# Altium footprint library PcbLib1.PcbLib: 53 footprints (part 3 of 4)
Each footprint in its own frame and in the unit in brackets; x right, y up, seen from the top. Pads: shape width x height; smd on the part's side, far side on the other; paste and mask are expansions set on the pad; w line width, h text height; cw(c..) or ccw(c..) is an arc to the next point about the centre after c.
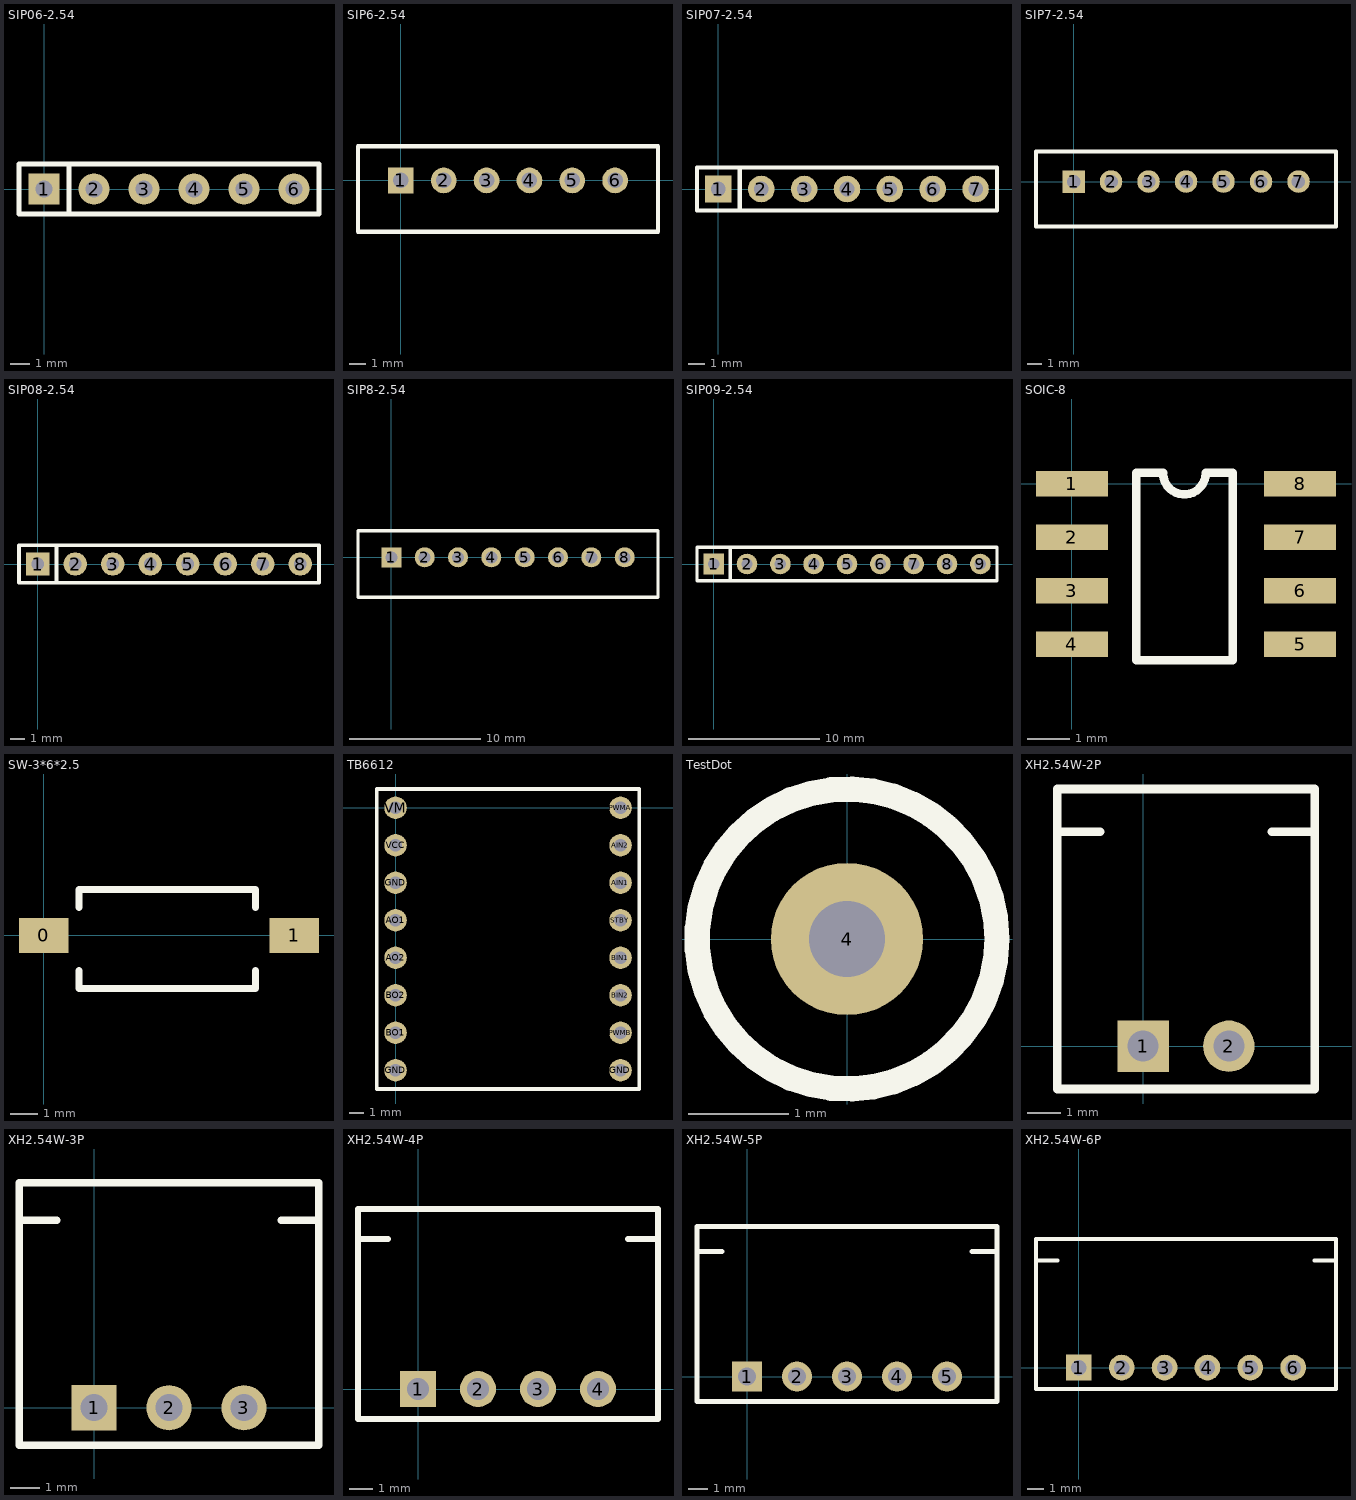
[diagram p2: the footprints below, top view; thin cyan lines are the x and y axes]

## SIP06-2.54 [mil]
height 100
pads (6):
  rect 62x62 hole 34: 1(0,0)
  round 62 hole 34: 2(100,0) 3(200,0) 4(300,0) 5(400,0) 6(500,0)
Top Overlay:
  lines w10: 50,-50 50,50 ; -50,-50 550,-50 550,50 -50,50 -50,-50

## SIP6-2.54 [mil]
pads (6):
  rect 60x60 hole 36: 1(0,0)
  round 60 hole 36: 2(100,0) 3(200,0) 4(300,0) 5(400,0) 6(500,0)
Top Overlay:
  lines w10: -100,-120 600,-120 600,80 -100,80 -100,0 -100,-120

## SIP07-2.54 [mil]
height 100
pads (7):
  rect 62x62 hole 34: 1(0,0)
  round 62 hole 34: 2(100,0) 3(200,0) 4(300,0) 5(400,0) 6(500,0) 7(600,0)
Top Overlay:
  lines w10: 50,-50 50,50 ; -50,-50 650,-50 650,50 -50,50 -50,-50

## SIP7-2.54 [mil]
pads (7):
  rect 60x60 hole 36: 1(0,0)
  round 60 hole 36: 2(100,0) 3(200,0) 4(300,0) 5(400,0) 6(500,0) 7(600,0)
Top Overlay:
  lines w10: -100,-120 -100,0 -100,80 700,80 700,-120 -100,-120

## SIP08-2.54 [mil]
height 100
pads (8):
  rect 62x62 hole 34: 1(0,0)
  round 62 hole 34: 2(100,0) 3(200,0) 4(300,0) 5(400,0) 6(500,0) 7(600,0) 8(700,0)
Top Overlay:
  lines w10: 50,-50 50,50 ; -50,-50 -50,50 750,50 750,-50 -50,-50

## SIP8-2.54 [mil]
pads (8):
  rect 60x60 hole 36: 1(0,0)
  round 60 hole 36: 2(100,0) 3(200,0) 4(300,0) 5(400,0) 6(500,0) 7(600,0) 8(700,0)
Top Overlay:
  lines w10: -100,-120 800,-120 800,80 -100,80 -100,-120

## SIP09-2.54 [mil]
height 100
pads (9):
  rect 62x62 hole 34: 1(0,0)
  round 62 hole 34: 2(100,0) 3(200,0) 4(300,0) 5(400,0) 6(500,0) 7(600,0) 8(700,0) 9(800,0)
Top Overlay:
  lines w10: 50,-50 50,50 ; -50,-50 850,-50 850,50 -50,50 -50,-50

## SOIC-8 [mil]
pads (8):
  rect 67x24 smd: 1(0,0) 2(0,-50) 3(0,-100) 4(0,-150) 5(213,-150) 6(213,-100) 7(213,-50) 8(213,0)
Top Overlay:
  lines w8: 60,-165 60,10 85,10 ccw(c105,10) 125,10 150,10 150,-165 60,-165

## SW-3*6*2.5 [mil]
pads (2):
  rect 70x50 smd: 0(0,0) 1(355,0)
Top Overlay:
  lines w10: 50,-50 50,-75 300,-75 300,-50 ; 50,40 50,65 300,65 300,40

## TB6612 [mil]
pads (16):
  round 60 hole 34: AIN1(600,-200) AIN2(600,-100) AO1(0,-300) AO2(0,-400) BIN1(600,-400) BIN2(600,-500) BO1(0,-600) BO2(0,-500) GND(0,-700) GND(0,-200) GND(600,-700) PWMA(600,0) PWMB(600,-600) STBY(600,-300) VCC(0,-100) VM(0,0)
Top Overlay:
  lines w10: -50,-750 650,-750 650,50 -50,50 -50,-750

## TestDot [mil]
height 100
pads (1):
  round 60 hole 30: 4(0,0)
Top Overlay:
  circle w10: c0,0 r59.06

## XH2.54W-2P [mil]
pads (2):
  rect 60x60 hole 36: 1(0,0)
  round 60 hole 36: 2(100,0)
Top Overlay:
  lines w10: -100,250 -50,250 ; 150,250 200,250 ; -100,-50 200,-50 200,300 -100,300 -100,-50

## XH2.54W-3P [mil]
pads (3):
  rect 60x60 hole 36: 1(0,0)
  round 60 hole 36: 2(100,0) 3(200,0)
Top Overlay:
  lines w10: -100,250 -50,250 ; 250,250 300,250 ; -100,-50 -100,300 300,300 300,-50 -100,-50

## XH2.54W-4P [mil]
pads (4):
  rect 60x60 hole 36: 1(0,0)
  round 60 hole 36: 2(100,0) 3(200,0) 4(300,0)
Top Overlay:
  lines w10: -100,250 -50,250 ; 350,250 400,250 ; -100,-50 -100,300 400,300 400,-50 -100,-50

## XH2.54W-5P [mil]
pads (5):
  rect 60x60 hole 36: 1(0,0)
  round 60 hole 36: 2(100,0) 3(200,0) 4(300,0) 5(400,0)
Top Overlay:
  lines w10: -100,250 -50,250 ; 450,250 500,250 ; -100,-50 500,-50 500,300 -100,300 -100,-50

## XH2.54W-6P [mil]
pads (6):
  rect 60x60 hole 36: 1(0,0)
  round 60 hole 36: 2(100,0) 3(200,0) 4(300,0) 5(400,0) 6(500,0)
Top Overlay:
  lines w10: -100,250 -50,250 ; 550,250 600,250 ; -100,-50 600,-50 600,300 -100,300 -100,-50